# Altium schematic symbol library TL1105AF160Q.SchLib: 1 symbol
Pins are listed as number, name and electrical type; pins without a type are passive.

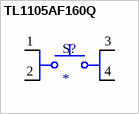
[diagram p0: symbol TL1105AF160Q]

## TL1105AF160Q
designator S?
Tactile Switch SPST-NO Top Actuated Through Hole; MF: E-Switch; MP: TL1105AF160Q; SnapEDA_Link: https://www.snapeda.com/parts/TL1105AF160Q/E-Switch/view-part/?ref=snap; Package: None; Value: *; Check_prices: https://www.snapeda.com/parts/TL1105AF160Q/E-Switch/view-part/?ref=eda
footprint SW_TL1105AF160Q
pins: 1, 2, 3, 4